# Altium integrated library Microchip PIC16 Part 1.IntLib: 1800 symbols (part 39 of 93)
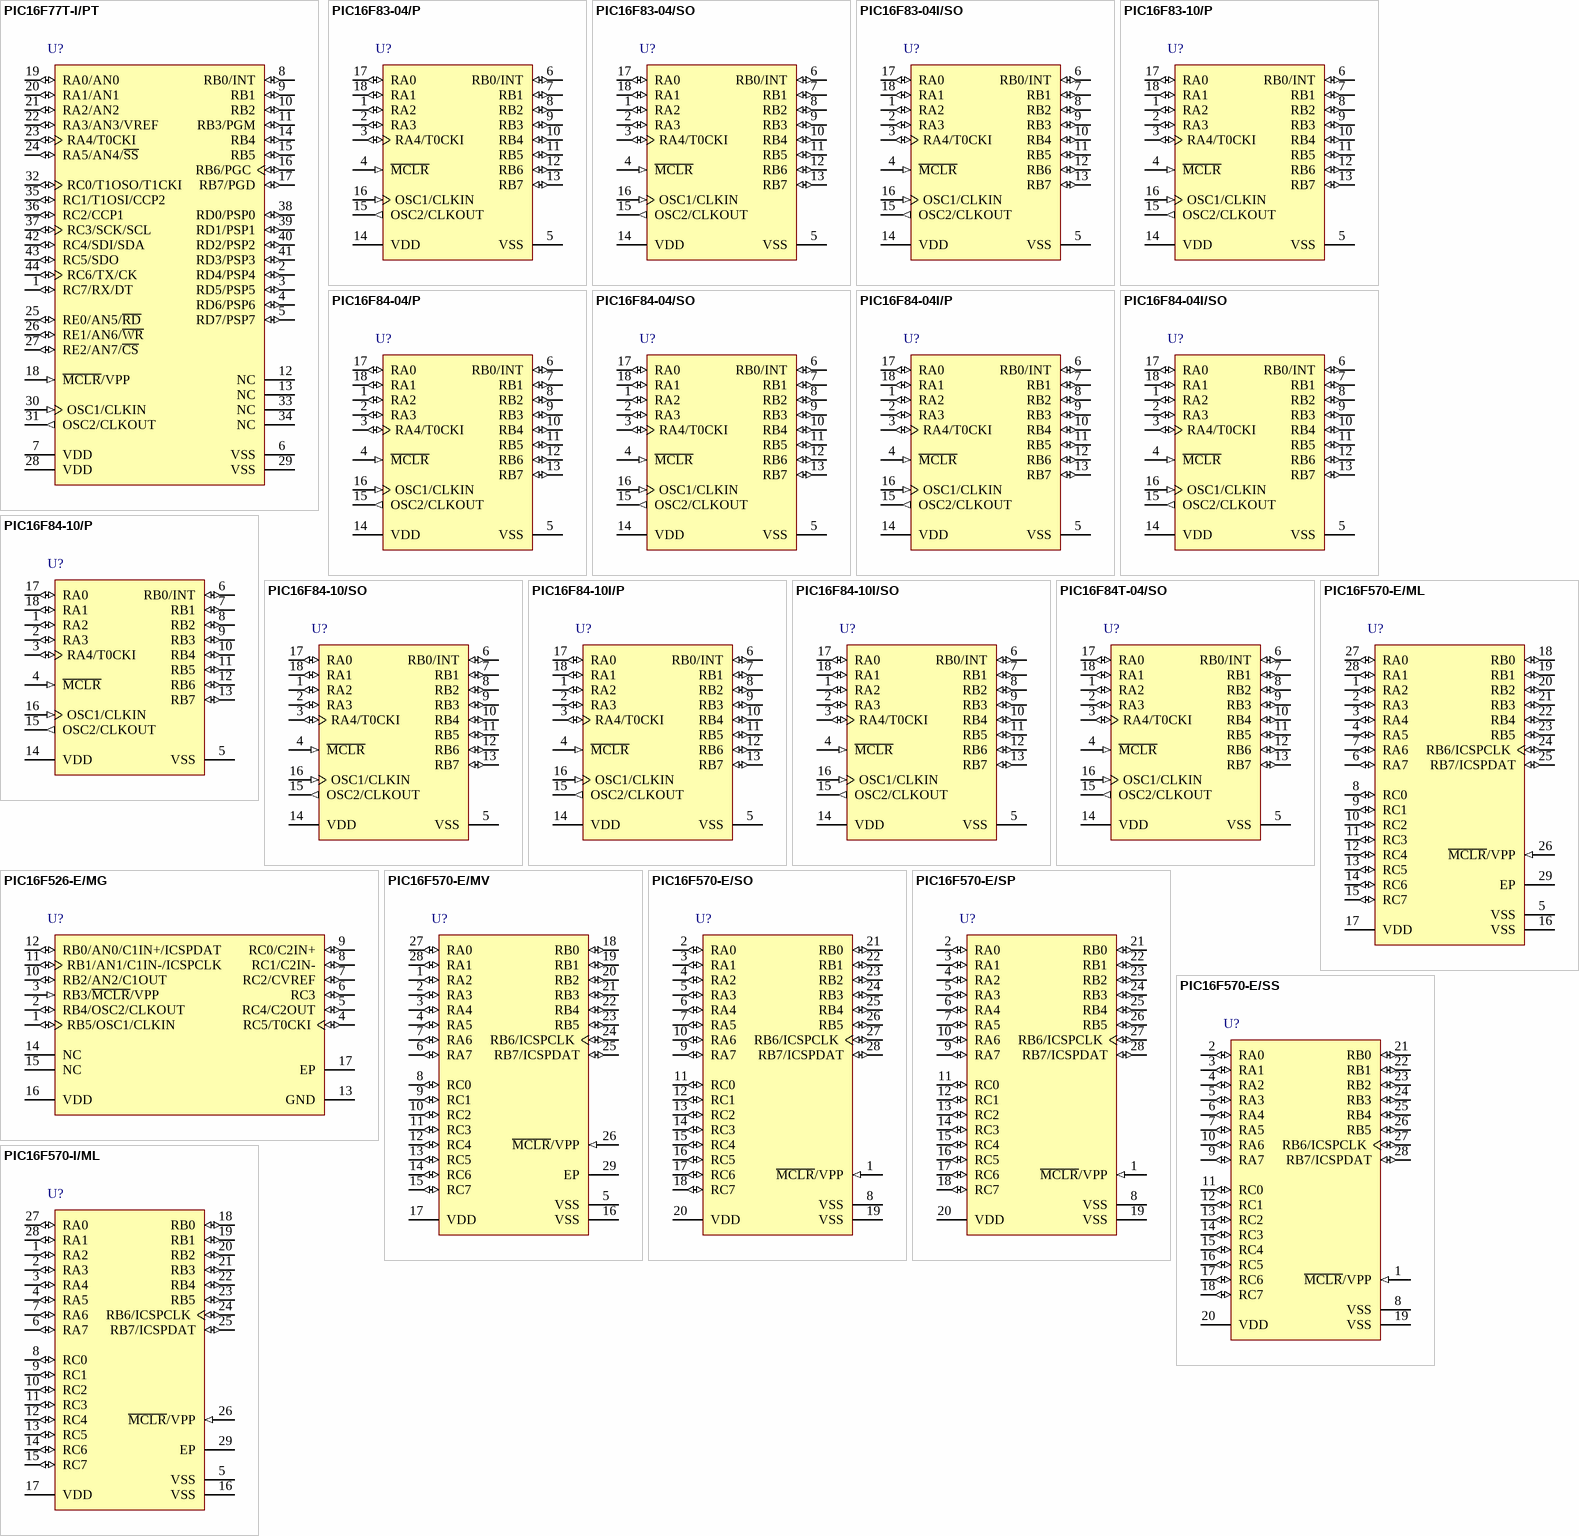
[diagram p138: symbols PIC16F77T-I/PT to PIC16F570-I/ML]

## PIC16F84-10I/P
designator U?
Flash / EEPROM 8-Bit Microcontroller, 10 MHz, 13 I/O, -40 to 85 degC, 18-pin PDIP (P18), Tube; Manufacturer: Microchip; PartNumber: PIC16F84-10I/P; Digital Communication: 0 -UART, 0 -A/E/USART, 0 -SPI, 0 -I2C, 0 -MSSP(SPI/I2C), 0 -SSP(SPI/I2C); EEPROM Data Memory (bytes): 64; I/O Pins: 13; Max. CPU Speed MHz: 10; Operation Voltage Range: 2V - 6V; Program Memory KBytes: 1.75; Program Memory KWords: 1; RAM: 68; Timers: 1 - 8-bit, 0 - 16-bit; DatasheetVersion: Rev. D; PackageVersion: C04-007B, 12/2012; PackageReference: PDIP-P18; PackageDescription: 18-Lead Plastic Dual In-Line, Row Spacing 7.62 mm, 22.86 x 6.6 mm Body, 2.54 mm Pitch; Supplier 1: Digi-Key; Supplier Part Number 1: PIC16F84-10I/P-ND; Supplier 2: Farnell; Supplier Part Number 2: 9760857; Supplier 3: Farnell; Supplier Part Number 3: 1523945; Supplier 4: Newark; Supplier Part Number 4: 59K0250; Supplier 5: Mouser; Supplier Part Number 5: 579-PIC16F84-10I/P; Memory Type: Flash; Packing: TUBE; RoHS: TRUE; Mounting Technology: Through Hole; ComponentLink1Description: Datasheet; ComponentLink1URL: http://ww1.microchip.com/downloads/en/DeviceDoc/30430D.pdf; ComponentLink2Description: Package Specification; ComponentLink2URL: http://www.microchip.com/stellent/groups/techpub_sg/documents/packagingspec/en012702.pdf; ComponentLink3Description: URL Link1; ComponentLink3URL: Product URL:http://www.microchip.com/datasheet/PIC16F84
footprint MCHP-PDIP-P18 (DIP, 18-Leads, Body 22.83x6.604mm, Pitch 2.54mm)
pins: 1 RA2 (io) "PORTA is a bi-directional I/O port.", 2 RA3 (io) "PORTA is a bi-directional I/O port.", 3 RA4/T0CKI (io), 4 ~{MCLR} (in) "Master clear (reset) input/programming voltage input. This pin is an active low reset to the device.", 5 VSS (power) "Ground reference for logic and I/O pins.", 6 RB0/INT (io), 7 RB1 (io) "PORTB is a bi-directional I/O port. PORTB can be software programmed for internal weak pull-up on all inputs.", 8 RB2 (io) "PORTB is a bi-directional I/O port. PORTB can be software programmed for internal weak pull-up on all inputs.", 9 RB3 (io) "PORTB is a bi-directional I/O port. PORTB can be software programmed for internal weak pull-up on all inputs.", 10 RB4 (io) "PORTB is a bi-directional I/O port. PORTB can be software programmed for internal weak pull-up on all inputs. Interrupt on change pin.", 11 RB5 (io) "PORTB is a bi-directional I/O port. PORTB can be software programmed for internal weak pull-up on all inputs. Interrupt on change pin.", 12 RB6 (io) "PORTB is a bi-directional I/O port. PORTB can be software programmed for internal weak pull-up on all inputs. Interrupt on change pin. Serial programming clock.", 13 RB7 (io) "PORTB is a bi-directional I/O port. PORTB can be software programmed for internal weak pull-up on all inputs. Interrupt on change pin. Serial programming data.", 14 VDD (power) "Positive supply for logic and I/O pins.", 15 OSC2/CLKOUT (out), 16 OSC1/CLKIN (in), 17 RA0 (io) "PORTA is a bi-directional I/O port.", 18 RA1 (io) "PORTA is a bi-directional I/O port."

## PIC16F84-10I/SO
designator U?
Flash / EEPROM 8-Bit Microcontroller, 10 MHz, 13 I/O, -40 to 85 degC, 18-pin SOIC (SO18), Tube; Manufacturer: Microchip; PartNumber: PIC16F84-10I/SO; Digital Communication: 0 -UART, 0 -A/E/USART, 0 -SPI, 0 -I2C, 0 -MSSP(SPI/I2C), 0 -SSP(SPI/I2C); EEPROM Data Memory (bytes): 64; I/O Pins: 13; Max. CPU Speed MHz: 10; Operation Voltage Range: 2V - 6V; Program Memory KBytes: 1.75; Program Memory KWords: 1; RAM: 68; Timers: 1 - 8-bit, 0 - 16-bit; DatasheetVersion: Rev. D; PackageVersion: C04-051C, 12/2012; PackageReference: SOIC-SO18; PackageDescription: 18-Lead Plastic Small Outline, 7.5 x 11.55 mm Body, 1.27 mm Pitch; Supplier 1: Digi-Key; Supplier Part Number 1: PIC16F84-10I/SO-ND; Supplier 2: Farnell; Supplier Part Number 2: 1818505; Supplier 3: Newark; Supplier Part Number 3: 23C5014; Supplier 4: Mouser; Supplier Part Number 4: 579-PIC16F84-10I/SO; Memory Type: Flash; Packing: TUBE; RoHS: TRUE; Mounting Technology: Surface Mount; ComponentLink1Description: Datasheet; ComponentLink1URL: http://ww1.microchip.com/downloads/en/DeviceDoc/30430D.pdf; ComponentLink2Description: Package Specification; ComponentLink2URL: http://www.microchip.com/stellent/groups/techpub_sg/documents/packagingspec/en012702.pdf; ComponentLink3Description: URL Link1; ComponentLink3URL: Product URL:http://www.microchip.com/datasheet/PIC16F84
footprint MCHP-SOIC-SO18_N (SOIC, 18-Leads, Body 11.55x7.5mm, Pitch 1.27mm, IPC Medium Density)
footprint MCHP-SOIC-SO18_L (SOIC, 18-Leads, Body 11.55x7.5mm, Pitch 1.27mm, IPC High Density)
footprint MCHP-SOIC-SO18_M (SOIC, 18-Leads, Body 11.55x7.5mm, Pitch 1.27mm, IPC Low Density)
pins: 1 RA2 (io) "PORTA is a bi-directional I/O port.", 2 RA3 (io) "PORTA is a bi-directional I/O port.", 3 RA4/T0CKI (io), 4 ~{MCLR} (in) "Master clear (reset) input/programming voltage input. This pin is an active low reset to the device.", 5 VSS (power) "Ground reference for logic and I/O pins.", 6 RB0/INT (io), 7 RB1 (io) "PORTB is a bi-directional I/O port. PORTB can be software programmed for internal weak pull-up on all inputs.", 8 RB2 (io) "PORTB is a bi-directional I/O port. PORTB can be software programmed for internal weak pull-up on all inputs.", 9 RB3 (io) "PORTB is a bi-directional I/O port. PORTB can be software programmed for internal weak pull-up on all inputs.", 10 RB4 (io) "PORTB is a bi-directional I/O port. PORTB can be software programmed for internal weak pull-up on all inputs. Interrupt on change pin.", 11 RB5 (io) "PORTB is a bi-directional I/O port. PORTB can be software programmed for internal weak pull-up on all inputs. Interrupt on change pin.", 12 RB6 (io) "PORTB is a bi-directional I/O port. PORTB can be software programmed for internal weak pull-up on all inputs. Interrupt on change pin. Serial programming clock.", 13 RB7 (io) "PORTB is a bi-directional I/O port. PORTB can be software programmed for internal weak pull-up on all inputs. Interrupt on change pin. Serial programming data.", 14 VDD (power) "Positive supply for logic and I/O pins.", 15 OSC2/CLKOUT (out), 16 OSC1/CLKIN (in), 17 RA0 (io) "PORTA is a bi-directional I/O port.", 18 RA1 (io) "PORTA is a bi-directional I/O port."

## PIC16F84T-04/SO
designator U?
Flash / EEPROM 8-Bit Microcontroller, 4 MHz, 13 I/O, 0 to 70 degC, 18-pin SOIC (SO18), Tape and Reel; Manufacturer: Microchip; PartNumber: PIC16F84T-04/SO; Digital Communication: 0 -UART, 0 -A/E/USART, 0 -SPI, 0 -I2C, 0 -MSSP(SPI/I2C), 0 -SSP(SPI/I2C); EEPROM Data Memory (bytes): 64; I/O Pins: 13; Max. CPU Speed MHz: 4; Operation Voltage Range: 2V - 6V; Packing: T/R; Program Memory KBytes: 1.75; Program Memory KWords: 1; RAM: 68; Timers: 1 - 8-bit, 0 - 16-bit; DatasheetVersion: Rev. D; PackageVersion: C04-051C, 12/2012; PackageReference: SOIC-SO18; PackageDescription: 18-Lead Plastic Small Outline, 7.5 x 11.55 mm Body, 1.27 mm Pitch; Supplier 1: Digi-Key; Supplier Part Number 1: PIC16F84T-04/SO-ND; Supplier 2: Mouser; Supplier Part Number 2: 579-PIC16F84T-04/SO; Memory Type: Flash; RoHS: TRUE; Mounting Technology: Surface Mount; ComponentLink1Description: Datasheet; ComponentLink1URL: http://ww1.microchip.com/downloads/en/DeviceDoc/30430D.pdf; ComponentLink2Description: Package Specification; ComponentLink2URL: http://www.microchip.com/stellent/groups/techpub_sg/documents/packagingspec/en012702.pdf; ComponentLink3Description: URL Link1; ComponentLink3URL: Product URL:http://www.microchip.com/datasheet/PIC16F84
footprint MCHP-SOIC-SO18_N (SOIC, 18-Leads, Body 11.55x7.5mm, Pitch 1.27mm, IPC Medium Density)
footprint MCHP-SOIC-SO18_L (SOIC, 18-Leads, Body 11.55x7.5mm, Pitch 1.27mm, IPC High Density)
footprint MCHP-SOIC-SO18_M (SOIC, 18-Leads, Body 11.55x7.5mm, Pitch 1.27mm, IPC Low Density)
pins: 1 RA2 (io) "PORTA is a bi-directional I/O port.", 2 RA3 (io) "PORTA is a bi-directional I/O port.", 3 RA4/T0CKI (io), 4 ~{MCLR} (in) "Master clear (reset) input/programming voltage input. This pin is an active low reset to the device.", 5 VSS (power) "Ground reference for logic and I/O pins.", 6 RB0/INT (io), 7 RB1 (io) "PORTB is a bi-directional I/O port. PORTB can be software programmed for internal weak pull-up on all inputs.", 8 RB2 (io) "PORTB is a bi-directional I/O port. PORTB can be software programmed for internal weak pull-up on all inputs.", 9 RB3 (io) "PORTB is a bi-directional I/O port. PORTB can be software programmed for internal weak pull-up on all inputs.", 10 RB4 (io) "PORTB is a bi-directional I/O port. PORTB can be software programmed for internal weak pull-up on all inputs. Interrupt on change pin.", 11 RB5 (io) "PORTB is a bi-directional I/O port. PORTB can be software programmed for internal weak pull-up on all inputs. Interrupt on change pin.", 12 RB6 (io) "PORTB is a bi-directional I/O port. PORTB can be software programmed for internal weak pull-up on all inputs. Interrupt on change pin. Serial programming clock.", 13 RB7 (io) "PORTB is a bi-directional I/O port. PORTB can be software programmed for internal weak pull-up on all inputs. Interrupt on change pin. Serial programming data.", 14 VDD (power) "Positive supply for logic and I/O pins.", 15 OSC2/CLKOUT (out), 16 OSC1/CLKIN (in), 17 RA0 (io) "PORTA is a bi-directional I/O port.", 18 RA1 (io) "PORTA is a bi-directional I/O port."

## PIC16F526-E/MG
designator U?
8-Bit Flash Microcontroller, 20 MHz, 11 I/O, -40 to 125 degC, 16-pin QFN (MG16), Tube; Manufacturer: Microchip; PartNumber: PIC16F526-E/MG; # of A/D Channels: 3; Digital Communication: 0 -UART, 0 -A/E/USART, 0 -SPI, 0 -I2C; EEPROM Data Memory (bytes): 64; I/O Pins: 11; Max. CPU Speed MHz: 20; Operation Voltage Range: 2V - 5.5V; Program Memory KBytes: 1.5; Program Memory KWords: 1; RAM: 67; Timers: 1 - 8-bit; DatasheetVersion: Rev. E; PackageVersion: C04-142A, 12/2012; PackageReference: QFN-MG16; PackageDescription: 16-Lead Plastic Quad Flat, No Lead Package, 3 x 3 mm Body, 0.5 mm Pitch; Supplier 1: Digi-Key; Supplier Part Number 1: PIC16F526-E/MG-ND; Supplier 2: Newark; Supplier Part Number 2: 63R7797; Supplier 3: Mouser; Supplier Part Number 3: 579-PIC16F526-E/MG; Memory Type: Flash; Packing: TUBE; RoHS: TRUE; Mounting Technology: Surface Mount; ComponentLink1Description: Datasheet; ComponentLink1URL: http://ww1.microchip.com/downloads/en/DeviceDoc/41326E.pdf; ComponentLink2Description: Package Specification; ComponentLink2URL: http://www.microchip.com/stellent/groups/techpub_sg/documents/packagingspec/en012702.pdf; ComponentLink3Description: URL Link1; ComponentLink3URL: Product URL:http://www.microchip.com/datasheet/PIC16F526
footprint MCHP-QFN-MG16_N (QFN, 16-Leads, Body 3x3mm, Pitch 0.5mm, Thermal Pad 1.25x1.25mm, IPC Medium Density)
footprint MCHP-QFN-MG16_L (QFN, 16-Leads, Body 3x3mm, Pitch 0.5mm, Thermal Pad 1.25x1.25mm, IPC High Density)
footprint MCHP-QFN-MG16_M (QFN, 16-Leads, Body 3x3mm, Pitch 0.5mm, Thermal Pad 1.25x1.25mm, IPC Low Density)
pins: 1 RB5/OSC1/CLKIN (io), 2 RB4/OSC2/CLKOUT (io), 3 RB3/~{MCLR}/VPP (in), 4 RC5/T0CKI (io), 5 RC4/C2OUT (io), 6 RC3 (io) "Bidirectional I/O port.", 7 RC2/CVREF (io), 8 RC1/C2IN- (io), 9 RC0/C2IN+ (io), 10 RB2/AN2/C1OUT (io), 11 RB1/AN1/C1IN-/ICSPCLK (io), 12 RB0/AN0/C1IN+/ICSPDAT (io), 13 GND (power) "Ground reference for logic and I/O pins", 14 NC, 15 NC, 16 VDD (power) "Positive supply for logic and I/O pins", 17 EP

## PIC16F570-E/ML
designator U?
8-Bit Flash Microcontroller, 2K (x12-Bit words) Program Memory, 132 Bytes SRAM, 25 I/O, Extended Temperature, 28-Pin QFN (ML28), Tube; Manufacturer: Microchip; PartNumber: PIC16F570-E/ML; VCC Range: 2.0 to 5.5 V; DatasheetVersion: Rev. D; PackageVersion: C04-105C, 12/2012; PackageReference: QFN-ML28; PackageDescription: 28-Lead Plastic Quad Flat, 6 x 6 mm Body, 0.65 mm Pitch; Packing: Tube; Mounting Technology: Surface Mount; ComponentLink1Description: Manufacturer URL; ComponentLink1URL: http://www.microchip.com/; ComponentLink2Description: Datasheet; ComponentLink2URL: http://ww1.microchip.com/downloads/en/DeviceDoc/40001684D.pdf; ComponentLink3Description: Package Specification; ComponentLink3URL: http://www.microchip.com/stellent/groups/techpub_sg/documents/packagingspec/en012702.pdf
footprint MCHP-QFN-ML28_N (QFN, 28-Leads, Body 6x6mm, Pitch 0.65mm, Thermal Pad 3.7x3.7mm, IPC Medium Density)
footprint MCHP-QFN-ML28_L (QFN, 28-Leads, Body 6x6mm, Pitch 0.65mm, Thermal Pad 3.7x3.7mm, IPC High Density)
footprint MCHP-QFN-ML28_M (QFN, 28-Leads, Body 6x6mm, Pitch 0.65mm, Thermal Pad 3.7x3.7mm, IPC Low Density)
pins: 1 RA2 (io), 2 RA3 (io), 3 RA4 (io), 4 RA5 (io), 5 VSS (power) "Ground reference for logic and I/O pins", 6 RA7 (io), 7 RA6 (io), 8 RC0 (io) "Bidirectional I/O port", 9 RC1 (io), 10 RC2 (io), 11 RC3 (io), 12 RC4 (io), 13 RC5 (io), 14 RC6 (io), 15 RC7 (io), 16 VSS (power) "Ground reference for logic and I/O pins", 17 VDD (power) "Positive supply for logic and I/O pins", 18 RB0 (io) "Bidirectional I/O pin. It can be software programmed for internal weak pull-up and wake-up from Sleep on pin change.", 19 RB1 (io) "Bidirectional I/O pin. It can be software programmed for internal weak pull-up and wake-up from Sleep on pin change.", 20 RB2 (io) "Bidirectional I/O pin. It can be software programmed for internal weak pull-up and wake-up from Sleep on pin change.", 21 RB3 (io), 22 RB4 (io), 23 RB5 (io) "Bidirectional I/O pin. It can be software programmed for internal weak pull-up and wake-up from Sleep on pin change.", 24 RB6/ICSPCLK (io), 25 RB7/ICSPDAT (io), 26 ~{MCLR}/VPP (in), 27 RA0 (io), 28 RA1 (io), 29 EP

## PIC16F570-E/MV
designator U?
8-Bit Flash Microcontroller, 2K (x12-Bit words) Program Memory, 132 Bytes SRAM, 25 I/O, Extended Temperature, 28-Pin UQFN (MV28), Tube; Manufacturer: Microchip; PartNumber: PIC16F570-E/MV; VCC Range: 2.0 to 5.5 V; DatasheetVersion: Rev. D; PackageVersion: C04-152A, 04/2013; PackageReference: UQFN-MV28; PackageDescription: 28-Lead Plastic Ultra Thin Quad Flat, Body 4 x 4 mm, Pitch 0.4 mm; Supplier 1: Digi-Key; Supplier Part Number 1: PIC16F570-E/MV-ND; Supplier 2: Newark; Supplier Part Number 2: 70W0208; Supplier 3: Mouser; Supplier Part Number 3: 579-PIC16F570-E/MV; Packing: Tube; Mounting Technology: Surface Mount; ComponentLink1Description: Manufacturer URL; ComponentLink1URL: http://www.microchip.com/; ComponentLink2Description: Datasheet; ComponentLink2URL: http://ww1.microchip.com/downloads/en/DeviceDoc/40001684D.pdf; ComponentLink3Description: Package Specification; ComponentLink3URL: http://www.microchip.com/stellent/groups/techpub_sg/documents/packagingspec/en012702.pdf
footprint MCHP-UQFN-MV28_N (QFN, 28-Leads, Body 4x4mm, Pitch 0.4mm, Thermal Pad 2.65x2.65mm, IPC Medium Density)
footprint MCHP-UQFN-MV28_L (QFN, 28-Leads, Body 4x4mm, Pitch 0.4mm, Thermal Pad 2.65x2.65mm, IPC High Density)
footprint MCHP-UQFN-MV28_M (QFN, 28-Leads, Body 4x4mm, Pitch 0.4mm, Thermal Pad 2.65x2.65mm, IPC Low Density)
pins: 1 RA2 (io), 2 RA3 (io), 3 RA4 (io), 4 RA5 (io), 5 VSS (power) "Ground reference for logic and I/O pins", 6 RA7 (io), 7 RA6 (io), 8 RC0 (io) "Bidirectional I/O port", 9 RC1 (io), 10 RC2 (io), 11 RC3 (io), 12 RC4 (io), 13 RC5 (io), 14 RC6 (io), 15 RC7 (io), 16 VSS (power) "Ground reference for logic and I/O pins", 17 VDD (power) "Positive supply for logic and I/O pins", 18 RB0 (io) "Bidirectional I/O pin. It can be software programmed for internal weak pull-up and wake-up from Sleep on pin change.", 19 RB1 (io) "Bidirectional I/O pin. It can be software programmed for internal weak pull-up and wake-up from Sleep on pin change.", 20 RB2 (io) "Bidirectional I/O pin. It can be software programmed for internal weak pull-up and wake-up from Sleep on pin change.", 21 RB3 (io), 22 RB4 (io), 23 RB5 (io) "Bidirectional I/O pin. It can be software programmed for internal weak pull-up and wake-up from Sleep on pin change.", 24 RB6/ICSPCLK (io), 25 RB7/ICSPDAT (io), 26 ~{MCLR}/VPP (in), 27 RA0 (io), 28 RA1 (io), 29 EP

## PIC16F570-E/SO
designator U?
8-Bit Flash Microcontroller, 2K (x12-Bit words) Program Memory, 132 Bytes SRAM, 25 I/O, Extended Temperature, 28-Pin SOIC (SO28), Tube; Manufacturer: Microchip; PartNumber: PIC16F570-E/SO; VCC Range: 2.0 to 5.5 V; DatasheetVersion: Rev. D; PackageVersion: C04-052C, 12/2012; PackageReference: SOIC-SO28; PackageDescription: 28-Lead Plastic Small Outline, 17.9 x 7.5 mm Body, 1.27 mm Pitch; Supplier 1: Digi-Key; Supplier Part Number 1: PIC16F570-E/SO-ND; Supplier 2: Newark; Supplier Part Number 2: 70W0209; Supplier 3: Mouser; Supplier Part Number 3: 579-PIC16F570-E/SO; Packing: Tube; Mounting Technology: Surface Mount; ComponentLink1Description: Manufacturer URL; ComponentLink1URL: http://www.microchip.com/; ComponentLink2Description: Datasheet; ComponentLink2URL: http://ww1.microchip.com/downloads/en/DeviceDoc/40001684D.pdf; ComponentLink3Description: Package Specification; ComponentLink3URL: http://www.microchip.com/stellent/groups/techpub_sg/documents/packagingspec/en012702.pdf
footprint MCHP-SOIC-SO28_N (SOIC, 28-Leads, Body 17.9x7.5mm, Pitch 1.27mm, IPC Medium Density)
footprint MCHP-SOIC-SO28_L (SOIC, 28-Leads, Body 17.9x7.5mm, Pitch 1.27mm, IPC High Density)
footprint MCHP-SOIC-SO28_M (SOIC, 28-Leads, Body 17.9x7.5mm, Pitch 1.27mm, IPC Low Density)
pins: 1 ~{MCLR}/VPP (in), 2 RA0 (io), 3 RA1 (io), 4 RA2 (io), 5 RA3 (io), 6 RA4 (io), 7 RA5 (io), 8 VSS (power) "Ground reference for logic and I/O pins", 9 RA7 (io), 10 RA6 (io), 11 RC0 (io), 12 RC1 (io), 13 RC2 (io), 14 RC3 (io), 15 RC4 (io), 16 RC5 (io), 17 RC6 (io), 18 RC7 (io), 19 VSS (power) "Ground reference for logic and I/O pins", 20 VDD (power) "Positive supply for logic and I/O pins", 21 RB0 (io) "Bidirectional I/O pin. It can be software programmed for internal weak pull-up and wake-up from Sleep on pin change.", 22 RB1 (io) "Bidirectional I/O pin. It can be software programmed for internal weak pull-up and wake-up from Sleep on pin change.", 23 RB2 (io) "Bidirectional I/O pin. It can be software programmed for internal weak pull-up and wake-up from Sleep on pin change.", 24 RB3 (io), 25 RB4 (io), 26 RB5 (io) "Bidirectional I/O pin. It can be software programmed for internal weak pull-up and wake-up from Sleep on pin change.", 27 RB6/ICSPCLK (io), 28 RB7/ICSPDAT (io)

## PIC16F570-E/SP
designator U?
8-Bit Flash Microcontroller, 2K (x12-Bit words) Program Memory, 132 Bytes SRAM, 25 I/O, Extended Temperature, 28-Pin SPDIP (SP28), Tube; Manufacturer: Microchip; PartNumber: PIC16F570-E/SP; VCC Range: 2.0 to 5.5 V; DatasheetVersion: Rev. D; PackageVersion: C04-070B, 12/2012; PackageReference: SPDIP-SP28; PackageDescription: 28-Lead Plastic Dual In-Line, 34.86 x 6.79 mm Body, 2.54 mm Pitch; Supplier 1: Digi-Key; Supplier Part Number 1: PIC16F570-E/SP-ND; Supplier 2: Newark; Supplier Part Number 2: 70W0210; Supplier 3: Mouser; Supplier Part Number 3: 579-PIC16F570-E/SP; Packing: Tube; Mounting Technology: Through Hole; ComponentLink1Description: Manufacturer URL; ComponentLink1URL: http://www.microchip.com/; ComponentLink2Description: Datasheet; ComponentLink2URL: http://ww1.microchip.com/downloads/en/DeviceDoc/40001684D.pdf; ComponentLink3Description: Package Specification; ComponentLink3URL: http://www.microchip.com/stellent/groups/techpub_sg/documents/packagingspec/en012702.pdf
footprint MCHP-SPDIP-SP28 (DIP, 28-Leads, Body 34.86x6.79mm, Pitch 2.54mm)
pins: 1 ~{MCLR}/VPP (in), 2 RA0 (io), 3 RA1 (io), 4 RA2 (io), 5 RA3 (io), 6 RA4 (io), 7 RA5 (io), 8 VSS (power) "Ground reference for logic and I/O pins", 9 RA7 (io), 10 RA6 (io), 11 RC0 (io), 12 RC1 (io), 13 RC2 (io), 14 RC3 (io), 15 RC4 (io), 16 RC5 (io), 17 RC6 (io), 18 RC7 (io), 19 VSS (power) "Ground reference for logic and I/O pins", 20 VDD (power) "Positive supply for logic and I/O pins", 21 RB0 (io) "Bidirectional I/O pin. It can be software programmed for internal weak pull-up and wake-up from Sleep on pin change.", 22 RB1 (io) "Bidirectional I/O pin. It can be software programmed for internal weak pull-up and wake-up from Sleep on pin change.", 23 RB2 (io) "Bidirectional I/O pin. It can be software programmed for internal weak pull-up and wake-up from Sleep on pin change.", 24 RB3 (io), 25 RB4 (io), 26 RB5 (io) "Bidirectional I/O pin. It can be software programmed for internal weak pull-up and wake-up from Sleep on pin change.", 27 RB6/ICSPCLK (io), 28 RB7/ICSPDAT (io)

## PIC16F570-E/SS
designator U?
8-Bit Flash Microcontroller, 2K (x12-Bit words) Program Memory, 132 Bytes SRAM, 25 I/O, Extended Temperature, 28-Pin SSOP (SS28), Tube; Manufacturer: Microchip; PartNumber: PIC16F570-E/SS; VCC Range: 2.0 to 5.5 V; DatasheetVersion: Rev. D; PackageVersion: C04-073B, 12/2012; PackageReference: SSOP-SS28; PackageDescription: 28-Lead Plastic Shrink Small Outline, 10.2 x 5.3 mm Body, 0.65 mm Pitch; Supplier 1: Digi-Key; Supplier Part Number 1: PIC16F570-E/SS-ND; Supplier 2: Newark; Supplier Part Number 2: 70W0211; Supplier 3: Mouser; Supplier Part Number 3: 579-PIC16F570-E/SS; Packing: Tube; Mounting Technology: Surface Mount; ComponentLink1Description: Manufacturer URL; ComponentLink1URL: http://www.microchip.com/; ComponentLink2Description: Datasheet; ComponentLink2URL: http://ww1.microchip.com/downloads/en/DeviceDoc/40001684D.pdf; ComponentLink3Description: Package Specification; ComponentLink3URL: http://www.microchip.com/stellent/groups/techpub_sg/documents/packagingspec/en012702.pdf
footprint MCHP-SSOP-SS28_N (SOP, 28-Leads, Body 10.2x5.3mm, Pitch 0.65mm, IPC Medium Density)
footprint MCHP-SSOP-SS28_L (SOP, 28-Leads, Body 10.2x5.3mm, Pitch 0.65mm, IPC High Density)
footprint MCHP-SSOP-SS28_M (SOP, 28-Leads, Body 10.2x5.3mm, Pitch 0.65mm, IPC Low Density)
pins: 1 ~{MCLR}/VPP (in), 2 RA0 (io), 3 RA1 (io), 4 RA2 (io), 5 RA3 (io), 6 RA4 (io), 7 RA5 (io), 8 VSS (power) "Ground reference for logic and I/O pins", 9 RA7 (io), 10 RA6 (io), 11 RC0 (io), 12 RC1 (io), 13 RC2 (io), 14 RC3 (io), 15 RC4 (io), 16 RC5 (io), 17 RC6 (io), 18 RC7 (io), 19 VSS (power) "Ground reference for logic and I/O pins", 20 VDD (power) "Positive supply for logic and I/O pins", 21 RB0 (io) "Bidirectional I/O pin. It can be software programmed for internal weak pull-up and wake-up from Sleep on pin change.", 22 RB1 (io) "Bidirectional I/O pin. It can be software programmed for internal weak pull-up and wake-up from Sleep on pin change.", 23 RB2 (io) "Bidirectional I/O pin. It can be software programmed for internal weak pull-up and wake-up from Sleep on pin change.", 24 RB3 (io), 25 RB4 (io), 26 RB5 (io) "Bidirectional I/O pin. It can be software programmed for internal weak pull-up and wake-up from Sleep on pin change.", 27 RB6/ICSPCLK (io), 28 RB7/ICSPDAT (io)

## PIC16F570-I/ML
designator U?
8-Bit Flash Microcontroller, 2K (x12-Bit words) Program Memory, 132 Bytes SRAM, 25 I/O, Industrial Temperature, 28-Pin QFN (ML28), Tube; Manufacturer: Microchip; PartNumber: PIC16F570-I/ML; VCC Range: 2.0 to 5.5 V; DatasheetVersion: Rev. D; PackageVersion: C04-105C, 12/2012; PackageReference: QFN-ML28; PackageDescription: 28-Lead Plastic Quad Flat, 6 x 6 mm Body, 0.65 mm Pitch; Packing: Tube; Mounting Technology: Surface Mount; ComponentLink1Description: Manufacturer URL; ComponentLink1URL: http://www.microchip.com/; ComponentLink2Description: Datasheet; ComponentLink2URL: http://ww1.microchip.com/downloads/en/DeviceDoc/40001684D.pdf; ComponentLink3Description: Package Specification; ComponentLink3URL: http://www.microchip.com/stellent/groups/techpub_sg/documents/packagingspec/en012702.pdf
footprint MCHP-QFN-ML28_N (QFN, 28-Leads, Body 6x6mm, Pitch 0.65mm, Thermal Pad 3.7x3.7mm, IPC Medium Density)
footprint MCHP-QFN-ML28_L (QFN, 28-Leads, Body 6x6mm, Pitch 0.65mm, Thermal Pad 3.7x3.7mm, IPC High Density)
footprint MCHP-QFN-ML28_M (QFN, 28-Leads, Body 6x6mm, Pitch 0.65mm, Thermal Pad 3.7x3.7mm, IPC Low Density)
pins: 1 RA2 (io), 2 RA3 (io), 3 RA4 (io), 4 RA5 (io), 5 VSS (power) "Ground reference for logic and I/O pins", 6 RA7 (io), 7 RA6 (io), 8 RC0 (io) "Bidirectional I/O port", 9 RC1 (io), 10 RC2 (io), 11 RC3 (io), 12 RC4 (io), 13 RC5 (io), 14 RC6 (io), 15 RC7 (io), 16 VSS (power) "Ground reference for logic and I/O pins", 17 VDD (power) "Positive supply for logic and I/O pins", 18 RB0 (io) "Bidirectional I/O pin. It can be software programmed for internal weak pull-up and wake-up from Sleep on pin change.", 19 RB1 (io) "Bidirectional I/O pin. It can be software programmed for internal weak pull-up and wake-up from Sleep on pin change.", 20 RB2 (io) "Bidirectional I/O pin. It can be software programmed for internal weak pull-up and wake-up from Sleep on pin change.", 21 RB3 (io), 22 RB4 (io), 23 RB5 (io) "Bidirectional I/O pin. It can be software programmed for internal weak pull-up and wake-up from Sleep on pin change.", 24 RB6/ICSPCLK (io), 25 RB7/ICSPDAT (io), 26 ~{MCLR}/VPP (in), 27 RA0 (io), 28 RA1 (io), 29 EP

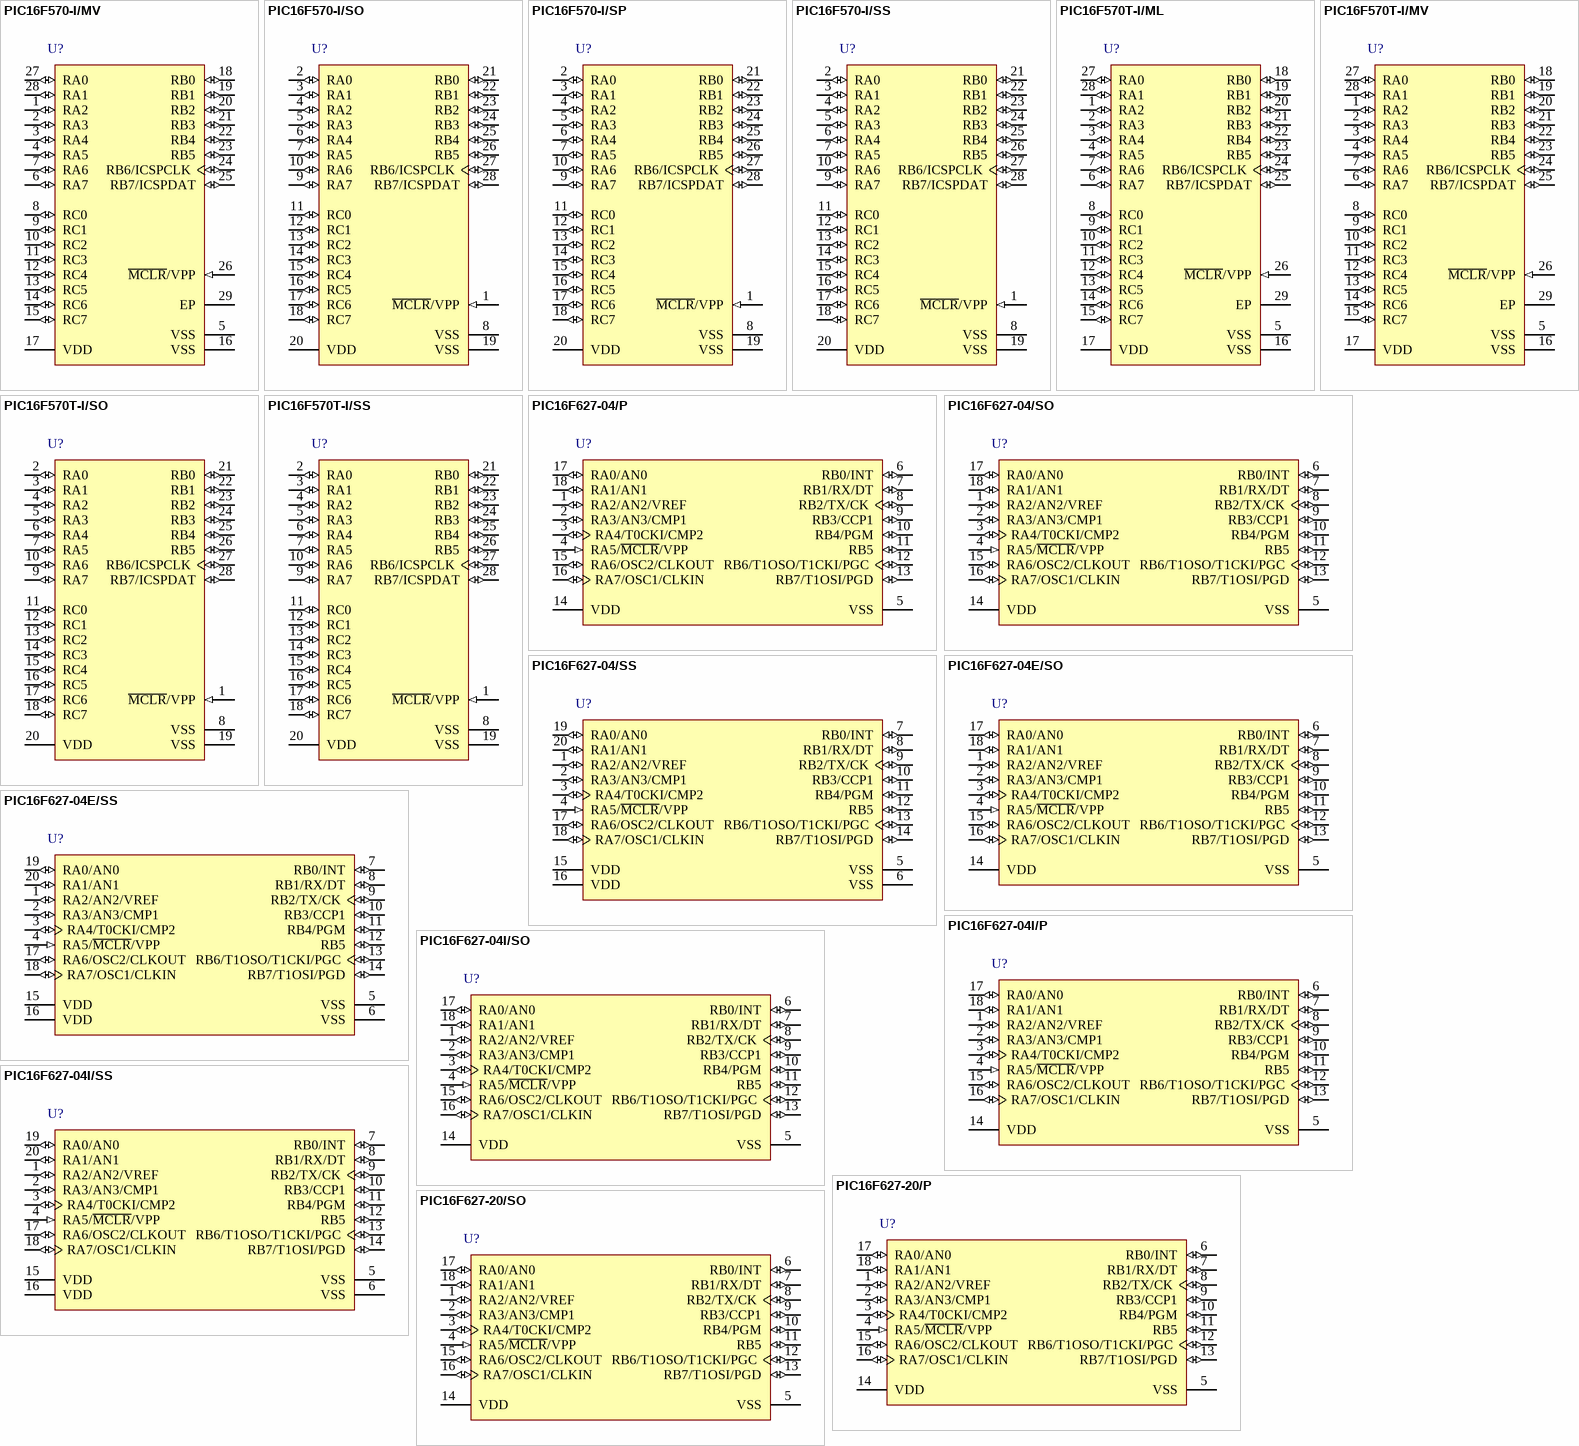
[diagram p34: symbols PIC16F570-I/MV to PIC16F627-20/SO]

## PIC16F570-I/MV
designator U?
8-Bit Flash Microcontroller, 2K (x12-Bit words) Program Memory, 132 Bytes SRAM, 25 I/O, Industrial Temperature, 28-Pin UQFN (MV28), Tube; Manufacturer: Microchip; PartNumber: PIC16F570-I/MV; VCC Range: 2.0 to 5.5 V; DatasheetVersion: Rev. D; PackageVersion: C04-152A, 04/2013; PackageReference: UQFN-MV28; PackageDescription: 28-Lead Plastic Ultra Thin Quad Flat, Body 4 x 4 mm, Pitch 0.4 mm; Supplier 1: Digi-Key; Supplier Part Number 1: PIC16F570-I/MV-ND; Supplier 2: Farnell; Supplier Part Number 2: 2352477; Supplier 3: Newark; Supplier Part Number 3: 70W0212; Supplier 4: Newark; Supplier Part Number 4: 04X6682; Supplier 5: Mouser; Supplier Part Number 5: 579-PIC16F570-I/MV; Packing: Tube; Mounting Technology: Surface Mount; ComponentLink1Description: Manufacturer URL; ComponentLink1URL: http://www.microchip.com/; ComponentLink2Description: Datasheet; ComponentLink2URL: http://ww1.microchip.com/downloads/en/DeviceDoc/40001684D.pdf; ComponentLink3Description: Package Specification; ComponentLink3URL: http://www.microchip.com/stellent/groups/techpub_sg/documents/packagingspec/en012702.pdf
footprint MCHP-UQFN-MV28_N (QFN, 28-Leads, Body 4x4mm, Pitch 0.4mm, Thermal Pad 2.65x2.65mm, IPC Medium Density)
footprint MCHP-UQFN-MV28_L (QFN, 28-Leads, Body 4x4mm, Pitch 0.4mm, Thermal Pad 2.65x2.65mm, IPC High Density)
footprint MCHP-UQFN-MV28_M (QFN, 28-Leads, Body 4x4mm, Pitch 0.4mm, Thermal Pad 2.65x2.65mm, IPC Low Density)
pins: 1 RA2 (io), 2 RA3 (io), 3 RA4 (io), 4 RA5 (io), 5 VSS (power) "Ground reference for logic and I/O pins", 6 RA7 (io), 7 RA6 (io), 8 RC0 (io) "Bidirectional I/O port", 9 RC1 (io), 10 RC2 (io), 11 RC3 (io), 12 RC4 (io), 13 RC5 (io), 14 RC6 (io), 15 RC7 (io), 16 VSS (power) "Ground reference for logic and I/O pins", 17 VDD (power) "Positive supply for logic and I/O pins", 18 RB0 (io) "Bidirectional I/O pin. It can be software programmed for internal weak pull-up and wake-up from Sleep on pin change.", 19 RB1 (io) "Bidirectional I/O pin. It can be software programmed for internal weak pull-up and wake-up from Sleep on pin change.", 20 RB2 (io) "Bidirectional I/O pin. It can be software programmed for internal weak pull-up and wake-up from Sleep on pin change.", 21 RB3 (io), 22 RB4 (io), 23 RB5 (io) "Bidirectional I/O pin. It can be software programmed for internal weak pull-up and wake-up from Sleep on pin change.", 24 RB6/ICSPCLK (io), 25 RB7/ICSPDAT (io), 26 ~{MCLR}/VPP (in), 27 RA0 (io), 28 RA1 (io), 29 EP

## PIC16F570-I/SO
designator U?
8-Bit Flash Microcontroller, 2K (x12-Bit words) Program Memory, 132 Bytes SRAM, 25 I/O, Industrial Temperature, 28-Pin SOIC (SO28), Tube; Manufacturer: Microchip; PartNumber: PIC16F570-I/SO; VCC Range: 2.0 to 5.5 V; DatasheetVersion: Rev. D; PackageVersion: C04-052C, 12/2012; PackageReference: SOIC-SO28; PackageDescription: 28-Lead Plastic Small Outline, 17.9 x 7.5 mm Body, 1.27 mm Pitch; Supplier 1: Digi-Key; Supplier Part Number 1: PIC16F570-I/SO-ND; Supplier 2: Farnell; Supplier Part Number 2: 2352478; Supplier 3: Newark; Supplier Part Number 3: 70W0213; Supplier 4: Newark; Supplier Part Number 4: 04X6683; Supplier 5: Mouser; Supplier Part Number 5: 579-PIC16F570-I/SO; Packing: Tube; Mounting Technology: Surface Mount; ComponentLink1Description: Manufacturer URL; ComponentLink1URL: http://www.microchip.com/; ComponentLink2Description: Datasheet; ComponentLink2URL: http://ww1.microchip.com/downloads/en/DeviceDoc/40001684D.pdf; ComponentLink3Description: Package Specification; ComponentLink3URL: http://www.microchip.com/stellent/groups/techpub_sg/documents/packagingspec/en012702.pdf
footprint MCHP-SOIC-SO28_N (SOIC, 28-Leads, Body 17.9x7.5mm, Pitch 1.27mm, IPC Medium Density)
footprint MCHP-SOIC-SO28_L (SOIC, 28-Leads, Body 17.9x7.5mm, Pitch 1.27mm, IPC High Density)
footprint MCHP-SOIC-SO28_M (SOIC, 28-Leads, Body 17.9x7.5mm, Pitch 1.27mm, IPC Low Density)
pins: 1 ~{MCLR}/VPP (in), 2 RA0 (io), 3 RA1 (io), 4 RA2 (io), 5 RA3 (io), 6 RA4 (io), 7 RA5 (io), 8 VSS (power) "Ground reference for logic and I/O pins", 9 RA7 (io), 10 RA6 (io), 11 RC0 (io), 12 RC1 (io), 13 RC2 (io), 14 RC3 (io), 15 RC4 (io), 16 RC5 (io), 17 RC6 (io), 18 RC7 (io), 19 VSS (power) "Ground reference for logic and I/O pins", 20 VDD (power) "Positive supply for logic and I/O pins", 21 RB0 (io) "Bidirectional I/O pin. It can be software programmed for internal weak pull-up and wake-up from Sleep on pin change.", 22 RB1 (io) "Bidirectional I/O pin. It can be software programmed for internal weak pull-up and wake-up from Sleep on pin change.", 23 RB2 (io) "Bidirectional I/O pin. It can be software programmed for internal weak pull-up and wake-up from Sleep on pin change.", 24 RB3 (io), 25 RB4 (io), 26 RB5 (io) "Bidirectional I/O pin. It can be software programmed for internal weak pull-up and wake-up from Sleep on pin change.", 27 RB6/ICSPCLK (io), 28 RB7/ICSPDAT (io)

## PIC16F570-I/SP
designator U?
8-Bit Flash Microcontroller, 2K (x12-Bit words) Program Memory, 132 Bytes SRAM, 25 I/O, Industrial Temperature, 28-Pin SPDIP (SP28), Tube; Manufacturer: Microchip; PartNumber: PIC16F570-I/SP; VCC Range: 2.0 to 5.5 V; DatasheetVersion: Rev. D; PackageVersion: C04-070B, 12/2012; PackageReference: SPDIP-SP28; PackageDescription: 28-Lead Plastic Dual In-Line, 34.86 x 6.79 mm Body, 2.54 mm Pitch; Supplier 1: Digi-Key; Supplier Part Number 1: PIC16F570-I/SP-ND; Supplier 2: Farnell; Supplier Part Number 2: 2352479; Supplier 3: Newark; Supplier Part Number 3: 70W0214; Supplier 4: Newark; Supplier Part Number 4: 04X6684; Supplier 5: Mouser; Supplier Part Number 5: 579-PIC16F570-I/SP; Packing: Tube; Mounting Technology: Through Hole; ComponentLink1Description: Manufacturer URL; ComponentLink1URL: http://www.microchip.com/; ComponentLink2Description: Datasheet; ComponentLink2URL: http://ww1.microchip.com/downloads/en/DeviceDoc/40001684D.pdf; ComponentLink3Description: Package Specification; ComponentLink3URL: http://www.microchip.com/stellent/groups/techpub_sg/documents/packagingspec/en012702.pdf
footprint MCHP-SPDIP-SP28 (DIP, 28-Leads, Body 34.86x6.79mm, Pitch 2.54mm)
pins: 1 ~{MCLR}/VPP (in), 2 RA0 (io), 3 RA1 (io), 4 RA2 (io), 5 RA3 (io), 6 RA4 (io), 7 RA5 (io), 8 VSS (power) "Ground reference for logic and I/O pins", 9 RA7 (io), 10 RA6 (io), 11 RC0 (io), 12 RC1 (io), 13 RC2 (io), 14 RC3 (io), 15 RC4 (io), 16 RC5 (io), 17 RC6 (io), 18 RC7 (io), 19 VSS (power) "Ground reference for logic and I/O pins", 20 VDD (power) "Positive supply for logic and I/O pins", 21 RB0 (io) "Bidirectional I/O pin. It can be software programmed for internal weak pull-up and wake-up from Sleep on pin change.", 22 RB1 (io) "Bidirectional I/O pin. It can be software programmed for internal weak pull-up and wake-up from Sleep on pin change.", 23 RB2 (io) "Bidirectional I/O pin. It can be software programmed for internal weak pull-up and wake-up from Sleep on pin change.", 24 RB3 (io), 25 RB4 (io), 26 RB5 (io) "Bidirectional I/O pin. It can be software programmed for internal weak pull-up and wake-up from Sleep on pin change.", 27 RB6/ICSPCLK (io), 28 RB7/ICSPDAT (io)

## PIC16F570-I/SS
designator U?
8-Bit Flash Microcontroller, 2K (x12-Bit words) Program Memory, 132 Bytes SRAM, 25 I/O, Industrial Temperature, 28-Pin SSOP (SS28), Tube; Manufacturer: Microchip; PartNumber: PIC16F570-I/SS; VCC Range: 2.0 to 5.5 V; DatasheetVersion: Rev. D; PackageVersion: C04-073B, 12/2012; PackageReference: SSOP-SS28; PackageDescription: 28-Lead Plastic Shrink Small Outline, 10.2 x 5.3 mm Body, 0.65 mm Pitch; Supplier 1: Digi-Key; Supplier Part Number 1: PIC16F570-I/SS-ND; Supplier 2: Farnell; Supplier Part Number 2: 2352480; Supplier 3: Newark; Supplier Part Number 3: 70W0215; Supplier 4: Newark; Supplier Part Number 4: 04X6685; Supplier 5: Mouser; Supplier Part Number 5: 579-PIC16F570-I/SS; Packing: Tube; Mounting Technology: Surface Mount; ComponentLink1Description: Manufacturer URL; ComponentLink1URL: http://www.microchip.com/; ComponentLink2Description: Datasheet; ComponentLink2URL: http://ww1.microchip.com/downloads/en/DeviceDoc/40001684D.pdf; ComponentLink3Description: Package Specification; ComponentLink3URL: http://www.microchip.com/stellent/groups/techpub_sg/documents/packagingspec/en012702.pdf
footprint MCHP-SSOP-SS28_N (SOP, 28-Leads, Body 10.2x5.3mm, Pitch 0.65mm, IPC Medium Density)
footprint MCHP-SSOP-SS28_L (SOP, 28-Leads, Body 10.2x5.3mm, Pitch 0.65mm, IPC High Density)
footprint MCHP-SSOP-SS28_M (SOP, 28-Leads, Body 10.2x5.3mm, Pitch 0.65mm, IPC Low Density)
pins: 1 ~{MCLR}/VPP (in), 2 RA0 (io), 3 RA1 (io), 4 RA2 (io), 5 RA3 (io), 6 RA4 (io), 7 RA5 (io), 8 VSS (power) "Ground reference for logic and I/O pins", 9 RA7 (io), 10 RA6 (io), 11 RC0 (io), 12 RC1 (io), 13 RC2 (io), 14 RC3 (io), 15 RC4 (io), 16 RC5 (io), 17 RC6 (io), 18 RC7 (io), 19 VSS (power) "Ground reference for logic and I/O pins", 20 VDD (power) "Positive supply for logic and I/O pins", 21 RB0 (io) "Bidirectional I/O pin. It can be software programmed for internal weak pull-up and wake-up from Sleep on pin change.", 22 RB1 (io) "Bidirectional I/O pin. It can be software programmed for internal weak pull-up and wake-up from Sleep on pin change.", 23 RB2 (io) "Bidirectional I/O pin. It can be software programmed for internal weak pull-up and wake-up from Sleep on pin change.", 24 RB3 (io), 25 RB4 (io), 26 RB5 (io) "Bidirectional I/O pin. It can be software programmed for internal weak pull-up and wake-up from Sleep on pin change.", 27 RB6/ICSPCLK (io), 28 RB7/ICSPDAT (io)

## PIC16F570T-I/ML
designator U?
8-Bit Flash Microcontroller, 2K (x12-Bit words) Program Memory, 132 Bytes SRAM, 25 I/O, Industrial Temperature, 28-Pin QFN (ML28), Tape and Reel; Manufacturer: Microchip; PartNumber: PIC16F570T-I/ML; VCC Range: 2.0 to 5.5 V; DatasheetVersion: Rev. D; PackageVersion: C04-105C, 12/2012; PackageReference: QFN-ML28; PackageDescription: 28-Lead Plastic Quad Flat, 6 x 6 mm Body, 0.65 mm Pitch; Packing: Tape and Reel; Mounting Technology: Surface Mount; ComponentLink1Description: Manufacturer URL; ComponentLink1URL: http://www.microchip.com/; ComponentLink2Description: Datasheet; ComponentLink2URL: http://ww1.microchip.com/downloads/en/DeviceDoc/40001684D.pdf; ComponentLink3Description: Package Specification; ComponentLink3URL: http://www.microchip.com/stellent/groups/techpub_sg/documents/packagingspec/en012702.pdf
footprint MCHP-QFN-ML28_N (QFN, 28-Leads, Body 6x6mm, Pitch 0.65mm, Thermal Pad 3.7x3.7mm, IPC Medium Density)
footprint MCHP-QFN-ML28_L (QFN, 28-Leads, Body 6x6mm, Pitch 0.65mm, Thermal Pad 3.7x3.7mm, IPC High Density)
footprint MCHP-QFN-ML28_M (QFN, 28-Leads, Body 6x6mm, Pitch 0.65mm, Thermal Pad 3.7x3.7mm, IPC Low Density)
pins: 1 RA2 (io), 2 RA3 (io), 3 RA4 (io), 4 RA5 (io), 5 VSS (power) "Ground reference for logic and I/O pins", 6 RA7 (io), 7 RA6 (io), 8 RC0 (io) "Bidirectional I/O port", 9 RC1 (io), 10 RC2 (io), 11 RC3 (io), 12 RC4 (io), 13 RC5 (io), 14 RC6 (io), 15 RC7 (io), 16 VSS (power) "Ground reference for logic and I/O pins", 17 VDD (power) "Positive supply for logic and I/O pins", 18 RB0 (io) "Bidirectional I/O pin. It can be software programmed for internal weak pull-up and wake-up from Sleep on pin change.", 19 RB1 (io) "Bidirectional I/O pin. It can be software programmed for internal weak pull-up and wake-up from Sleep on pin change.", 20 RB2 (io) "Bidirectional I/O pin. It can be software programmed for internal weak pull-up and wake-up from Sleep on pin change.", 21 RB3 (io), 22 RB4 (io), 23 RB5 (io) "Bidirectional I/O pin. It can be software programmed for internal weak pull-up and wake-up from Sleep on pin change.", 24 RB6/ICSPCLK (io), 25 RB7/ICSPDAT (io), 26 ~{MCLR}/VPP (in), 27 RA0 (io), 28 RA1 (io), 29 EP

## PIC16F570T-I/MV
designator U?
8-Bit Flash Microcontroller, 2K (x12-Bit words) Program Memory, 132 Bytes SRAM, 25 I/O, Industrial Temperature, 28-Pin UQFN (MV28), Tape and Reel; Manufacturer: Microchip; PartNumber: PIC16F570T-I/MV; VCC Range: 2.0 to 5.5 V; DatasheetVersion: Rev. D; PackageVersion: C04-152A, 04/2013; PackageReference: UQFN-MV28; PackageDescription: 28-Lead Plastic Ultra Thin Quad Flat, Body 4 x 4 mm, Pitch 0.4 mm; Supplier 1: Digi-Key; Supplier Part Number 1: PIC16F570T-I/MV-ND; Supplier 2: Newark; Supplier Part Number 2: 70W0216; Supplier 3: Mouser; Supplier Part Number 3: 579-PIC16F570T-I/MV; Packing: Tape and Reel; Mounting Technology: Surface Mount; ComponentLink1Description: Manufacturer URL; ComponentLink1URL: http://www.microchip.com/; ComponentLink2Description: Datasheet; ComponentLink2URL: http://ww1.microchip.com/downloads/en/DeviceDoc/40001684D.pdf; ComponentLink3Description: Package Specification; ComponentLink3URL: http://www.microchip.com/stellent/groups/techpub_sg/documents/packagingspec/en012702.pdf
footprint MCHP-UQFN-MV28_N (QFN, 28-Leads, Body 4x4mm, Pitch 0.4mm, Thermal Pad 2.65x2.65mm, IPC Medium Density)
footprint MCHP-UQFN-MV28_L (QFN, 28-Leads, Body 4x4mm, Pitch 0.4mm, Thermal Pad 2.65x2.65mm, IPC High Density)
footprint MCHP-UQFN-MV28_M (QFN, 28-Leads, Body 4x4mm, Pitch 0.4mm, Thermal Pad 2.65x2.65mm, IPC Low Density)
pins: 1 RA2 (io), 2 RA3 (io), 3 RA4 (io), 4 RA5 (io), 5 VSS (power) "Ground reference for logic and I/O pins", 6 RA7 (io), 7 RA6 (io), 8 RC0 (io) "Bidirectional I/O port", 9 RC1 (io), 10 RC2 (io), 11 RC3 (io), 12 RC4 (io), 13 RC5 (io), 14 RC6 (io), 15 RC7 (io), 16 VSS (power) "Ground reference for logic and I/O pins", 17 VDD (power) "Positive supply for logic and I/O pins", 18 RB0 (io) "Bidirectional I/O pin. It can be software programmed for internal weak pull-up and wake-up from Sleep on pin change.", 19 RB1 (io) "Bidirectional I/O pin. It can be software programmed for internal weak pull-up and wake-up from Sleep on pin change.", 20 RB2 (io) "Bidirectional I/O pin. It can be software programmed for internal weak pull-up and wake-up from Sleep on pin change.", 21 RB3 (io), 22 RB4 (io), 23 RB5 (io) "Bidirectional I/O pin. It can be software programmed for internal weak pull-up and wake-up from Sleep on pin change.", 24 RB6/ICSPCLK (io), 25 RB7/ICSPDAT (io), 26 ~{MCLR}/VPP (in), 27 RA0 (io), 28 RA1 (io), 29 EP

## PIC16F570T-I/SO
designator U?
8-Bit Flash Microcontroller, 2K (x12-Bit words) Program Memory, 132 Bytes SRAM, 25 I/O, Industrial Temperature, 28-Pin SOIC (SO28), Tape and Reel; Manufacturer: Microchip; PartNumber: PIC16F570T-I/SO; VCC Range: 2.0 to 5.5 V; DatasheetVersion: Rev. D; PackageVersion: C04-052C, 12/2012; PackageReference: SOIC-SO28; PackageDescription: 28-Lead Plastic Small Outline, 17.9 x 7.5 mm Body, 1.27 mm Pitch; Supplier 1: Digi-Key; Supplier Part Number 1: PIC16F570T-I/SO-ND; Supplier 2: Newark; Supplier Part Number 2: 70W0217; Supplier 3: Mouser; Supplier Part Number 3: 579-PIC16F570T-I/SO; Packing: Tape and Reel; Mounting Technology: Surface Mount; ComponentLink1Description: Manufacturer URL; ComponentLink1URL: http://www.microchip.com/; ComponentLink2Description: Datasheet; ComponentLink2URL: http://ww1.microchip.com/downloads/en/DeviceDoc/40001684D.pdf; ComponentLink3Description: Package Specification; ComponentLink3URL: http://www.microchip.com/stellent/groups/techpub_sg/documents/packagingspec/en012702.pdf
footprint MCHP-SOIC-SO28_N (SOIC, 28-Leads, Body 17.9x7.5mm, Pitch 1.27mm, IPC Medium Density)
footprint MCHP-SOIC-SO28_L (SOIC, 28-Leads, Body 17.9x7.5mm, Pitch 1.27mm, IPC High Density)
footprint MCHP-SOIC-SO28_M (SOIC, 28-Leads, Body 17.9x7.5mm, Pitch 1.27mm, IPC Low Density)
pins: 1 ~{MCLR}/VPP (in), 2 RA0 (io), 3 RA1 (io), 4 RA2 (io), 5 RA3 (io), 6 RA4 (io), 7 RA5 (io), 8 VSS (power) "Ground reference for logic and I/O pins", 9 RA7 (io), 10 RA6 (io), 11 RC0 (io), 12 RC1 (io), 13 RC2 (io), 14 RC3 (io), 15 RC4 (io), 16 RC5 (io), 17 RC6 (io), 18 RC7 (io), 19 VSS (power) "Ground reference for logic and I/O pins", 20 VDD (power) "Positive supply for logic and I/O pins", 21 RB0 (io) "Bidirectional I/O pin. It can be software programmed for internal weak pull-up and wake-up from Sleep on pin change.", 22 RB1 (io) "Bidirectional I/O pin. It can be software programmed for internal weak pull-up and wake-up from Sleep on pin change.", 23 RB2 (io) "Bidirectional I/O pin. It can be software programmed for internal weak pull-up and wake-up from Sleep on pin change.", 24 RB3 (io), 25 RB4 (io), 26 RB5 (io) "Bidirectional I/O pin. It can be software programmed for internal weak pull-up and wake-up from Sleep on pin change.", 27 RB6/ICSPCLK (io), 28 RB7/ICSPDAT (io)

## PIC16F570T-I/SS
designator U?
8-Bit Flash Microcontroller, 2K (x12-Bit words) Program Memory, 132 Bytes SRAM, 25 I/O, Industrial Temperature, 28-Pin SSOP (SS28), Tape and Reel; Manufacturer: Microchip; PartNumber: PIC16F570T-I/SS; VCC Range: 2.0 to 5.5 V; DatasheetVersion: Rev. D; PackageVersion: C04-073B, 12/2012; PackageReference: SSOP-SS28; PackageDescription: 28-Lead Plastic Shrink Small Outline, 10.2 x 5.3 mm Body, 0.65 mm Pitch; Supplier 1: Digi-Key; Supplier Part Number 1: PIC16F570T-I/SS-ND; Supplier 2: Newark; Supplier Part Number 2: 70W0218; Supplier 3: Mouser; Supplier Part Number 3: 579-PIC16F570T-I/SS; Packing: Tape and Reel; Mounting Technology: Surface Mount; ComponentLink1Description: Manufacturer URL; ComponentLink1URL: http://www.microchip.com/; ComponentLink2Description: Datasheet; ComponentLink2URL: http://ww1.microchip.com/downloads/en/DeviceDoc/40001684D.pdf; ComponentLink3Description: Package Specification; ComponentLink3URL: http://www.microchip.com/stellent/groups/techpub_sg/documents/packagingspec/en012702.pdf
footprint MCHP-SSOP-SS28_N (SOP, 28-Leads, Body 10.2x5.3mm, Pitch 0.65mm, IPC Medium Density)
footprint MCHP-SSOP-SS28_L (SOP, 28-Leads, Body 10.2x5.3mm, Pitch 0.65mm, IPC High Density)
footprint MCHP-SSOP-SS28_M (SOP, 28-Leads, Body 10.2x5.3mm, Pitch 0.65mm, IPC Low Density)
pins: 1 ~{MCLR}/VPP (in), 2 RA0 (io), 3 RA1 (io), 4 RA2 (io), 5 RA3 (io), 6 RA4 (io), 7 RA5 (io), 8 VSS (power) "Ground reference for logic and I/O pins", 9 RA7 (io), 10 RA6 (io), 11 RC0 (io), 12 RC1 (io), 13 RC2 (io), 14 RC3 (io), 15 RC4 (io), 16 RC5 (io), 17 RC6 (io), 18 RC7 (io), 19 VSS (power) "Ground reference for logic and I/O pins", 20 VDD (power) "Positive supply for logic and I/O pins", 21 RB0 (io) "Bidirectional I/O pin. It can be software programmed for internal weak pull-up and wake-up from Sleep on pin change.", 22 RB1 (io) "Bidirectional I/O pin. It can be software programmed for internal weak pull-up and wake-up from Sleep on pin change.", 23 RB2 (io) "Bidirectional I/O pin. It can be software programmed for internal weak pull-up and wake-up from Sleep on pin change.", 24 RB3 (io), 25 RB4 (io), 26 RB5 (io) "Bidirectional I/O pin. It can be software programmed for internal weak pull-up and wake-up from Sleep on pin change.", 27 RB6/ICSPCLK (io), 28 RB7/ICSPDAT (io)

## PIC16F627-04/P
designator U?
Flash-Based 8-Bit CMOS Microcontroller, 4 MHz, 16 I/O, 0 to 70 degC, 18-pin PDIP (P18), Tube; Manufacturer: Microchip; PartNumber: PIC16F627-04/P; Digital Communication: 0 -UART, 1 -A/E/USART, 0 -SPI, 0 -I2C; EEPROM Data Memory (bytes): 128; I/O Pins: 16; Max. CPU Speed MHz: 4; Memory Type: Flash; Operation Voltage Range: 3V - 5.5V; Program Memory KBytes: 1.75; Program Memory KWords: 1; RAM: 224; Timers: 2 - 8-bit, 1 - 16-bit, 0 - 32-bit; DatasheetVersion: Rev. C; PackageVersion: C04-007B, 12/2012; PackageReference: PDIP-P18; PackageDescription: 18-Lead Plastic Dual In-Line, Row Spacing 7.62 mm, 22.86 x 6.6 mm Body, 2.54 mm Pitch; Supplier 1: Digi-Key; Supplier Part Number 1: PIC16F627-04/P-ND; Supplier 2: Farnell; Supplier Part Number 2: 9760288; Supplier 3: Newark; Supplier Part Number 3: 23C4960; Supplier 4: Mouser; Supplier Part Number 4: 579-PIC16F62704P; Packing: TUBE; RoHS: TRUE; Mounting Technology: Through Hole; ComponentLink1Description: Datasheet; ComponentLink1URL: http://ww1.microchip.com/downloads/en/DeviceDoc/40300C.pdf; ComponentLink2Description: Package Specification; ComponentLink2URL: http://www.microchip.com/stellent/groups/techpub_sg/documents/packagingspec/en012702.pdf; ComponentLink3Description: URL Link1; ComponentLink3URL: Product URL:http://www.microchip.com/datasheet/PIC16F627
footprint MCHP-PDIP-P18 (DIP, 18-Leads, Body 22.83x6.604mm, Pitch 2.54mm)
pins: 1 RA2/AN2/VREF (io), 2 RA3/AN3/CMP1 (io), 3 RA4/T0CKI/CMP2 (io), 4 RA5/~{MCLR}/VPP (in), 5 VSS (power) "Ground reference for logic and I/O pins", 6 RB0/INT (io), 7 RB1/RX/DT (io), 8 RB2/TX/CK (io), 9 RB3/CCP1 (io), 10 RB4/PGM (io), 11 RB5 (io) "Bi-directional I/O port. Interrupt-on-pin change. Can be software programmed for internal weak pull-up.", 12 RB6/T1OSO/T1CKI/PGC (io), 13 RB7/T1OSI/PGD (io), 14 VDD (power) "Positive supply for logic and I/O pins", 15 RA6/OSC2/CLKOUT (io), 16 RA7/OSC1/CLKIN (io), 17 RA0/AN0 (io), 18 RA1/AN1 (io)

## PIC16F627-04/SO
designator U?
Flash-Based 8-Bit CMOS Microcontroller, 4 MHz, 16 I/O, 0 to 70 degC, 18-pin SOIC (SO18), Tube; Manufacturer: Microchip; PartNumber: PIC16F627-04/SO; Digital Communication: 0 -UART, 1 -A/E/USART, 0 -SPI, 0 -I2C; EEPROM Data Memory (bytes): 128; I/O Pins: 16; Max. CPU Speed MHz: 4; Memory Type: Flash; Operation Voltage Range: 3V - 5.5V; Program Memory KBytes: 1.75; Program Memory KWords: 1; RAM: 224; Timers: 2 - 8-bit, 1 - 16-bit, 0 - 32-bit; DatasheetVersion: Rev. C; PackageVersion: C04-051C, 12/2012; PackageReference: SOIC-SO18; PackageDescription: 18-Lead Plastic Small Outline, 7.5 x 11.55 mm Body, 1.27 mm Pitch; Supplier 1: Digi-Key; Supplier Part Number 1: PIC16F627-04/SO-ND; Supplier 2: Farnell; Supplier Part Number 2: 1084297MPKG; Supplier 3: Farnell; Supplier Part Number 3: 1084297; Supplier 4: Newark; Supplier Part Number 4: 69K7632; Supplier 5: Mouser; Supplier Part Number 5: 579-PIC16F62704SO; Packing: TUBE; RoHS: TRUE; Mounting Technology: Surface Mount; ComponentLink1Description: Datasheet; ComponentLink1URL: http://ww1.microchip.com/downloads/en/DeviceDoc/40300C.pdf; ComponentLink2Description: Package Specification; ComponentLink2URL: http://www.microchip.com/stellent/groups/techpub_sg/documents/packagingspec/en012702.pdf; ComponentLink3Description: URL Link1; ComponentLink3URL: Product URL:http://www.microchip.com/datasheet/PIC16F627
footprint MCHP-SOIC-SO18_N (SOIC, 18-Leads, Body 11.55x7.5mm, Pitch 1.27mm, IPC Medium Density)
footprint MCHP-SOIC-SO18_L (SOIC, 18-Leads, Body 11.55x7.5mm, Pitch 1.27mm, IPC High Density)
footprint MCHP-SOIC-SO18_M (SOIC, 18-Leads, Body 11.55x7.5mm, Pitch 1.27mm, IPC Low Density)
pins: 1 RA2/AN2/VREF (io), 2 RA3/AN3/CMP1 (io), 3 RA4/T0CKI/CMP2 (io), 4 RA5/~{MCLR}/VPP (in), 5 VSS (power) "Ground reference for logic and I/O pins", 6 RB0/INT (io), 7 RB1/RX/DT (io), 8 RB2/TX/CK (io), 9 RB3/CCP1 (io), 10 RB4/PGM (io), 11 RB5 (io) "Bi-directional I/O port. Interrupt-on-pin change. Can be software programmed for internal weak pull-up.", 12 RB6/T1OSO/T1CKI/PGC (io), 13 RB7/T1OSI/PGD (io), 14 VDD (power) "Positive supply for logic and I/O pins", 15 RA6/OSC2/CLKOUT (io), 16 RA7/OSC1/CLKIN (io), 17 RA0/AN0 (io), 18 RA1/AN1 (io)